# Altium footprint library 贴片电阻.PcbLib: 9 footprints
Each footprint in its own frame and in the unit in brackets; x right, y up, seen from the top. Pads: shape width x height; smd on the part's side, far side on the other; paste and mask are expansions set on the pad; w line width, h text height; cw(c..) or ccw(c..) is an arc to the next point about the centre after c.
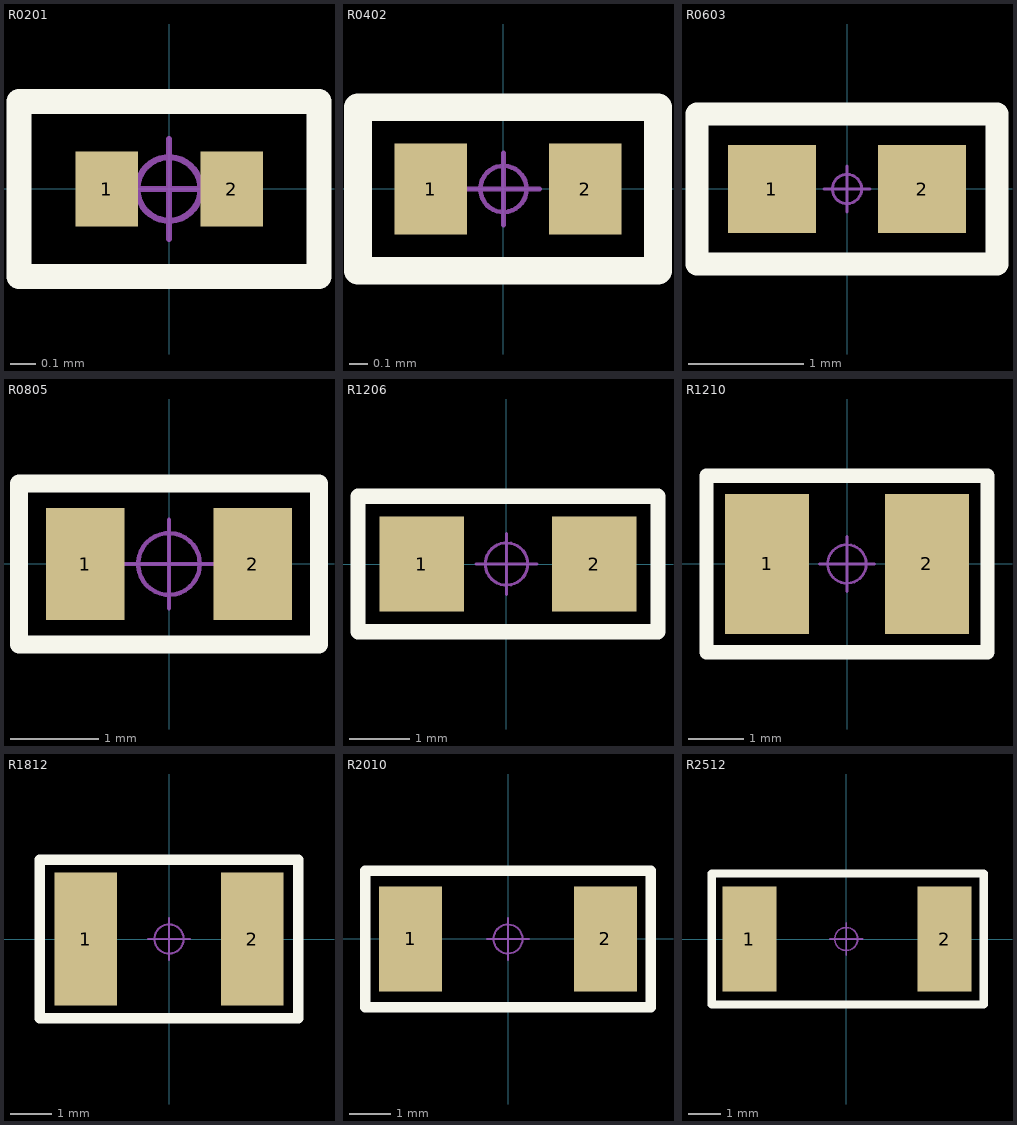
[diagram p0: the footprints below, top view; thin cyan lines are the x and y axes]

## R0201 [mm]
pads (2):
  rect 0.25x0.3 smd: 1(-0.25,0) 2(0.25,0)
Top Overlay:
  lines w0.102: -0.6,-0.35 -0.6,0.35 0.6,0.35 0.6,-0.35 -0.6,-0.35
Mechanical 15:
  circle w0.025: c0,0 r0.127
  lines w0.025: -0.2,0 0.2,0 ; 0,-0.2 0,0.2
3D body "R 0201.STEP": height 0.23, standoff 0, extent -0.3,-0.15 0.3,0.15

## R0402 [mm] "1/16W"
pads (2):
  rect 0.4x0.5 smd: 1(-0.4,0) 2(0.45,0)
Top Overlay:
  lines w0.152: -0.8,-0.45 0.85,-0.45 0.85,0.45 -0.8,0.45 -0.8,-0.45
Mechanical 15:
  circle w0.025: c0,0 r0.127
  lines w0.025: -0.2,0 0.2,0 ; 0,-0.2 0,0.2
3D body "R 0402.STEP": height 0.3, standoff 0, extent -0.5,-0.25 0.5,0.25

## R0603 [mil] "1/10W"
pads (2):
  rect 30x30 smd: 1(-25.59,0) 2(25.59,0)
Top Overlay:
  lines w8: -51.18,-25.59 51.18,-25.59 51.18,25.59 -51.18,25.59 -51.18,-25.59
Mechanical 15:
  circle w1: c0,0 r5
  lines w1: -7.87,0 7.87,0 ; 0,-7.87 0,7.87
3D body "R 0603.STEP": height 15.79, standoff -0.13, extent -31.49,-15.74 31.5,15.75

## R0805 [mil] "1/8W"
pads (2):
  rect 35x50 smd: 1(-37.4,0) 2(37.4,0)
Top Overlay:
  lines w8: -66.93,-36 66.93,-36 66.93,36 -66.93,36 -66.93,-36
Mechanical 15:
  circle w1.97: c0,0 r13.78
  lines w1.97: -19.68,0 19.68,0 ; 0,-19.68 0,19.68
3D body "R 0805.STEP": height 19.72, standoff -0.24, extent -39.37,-24.6 39.37,24.61

## R1206 [mil] "1/4W"
pads (2):
  rect 55x62 smd: 1(-55.12,0) 2(57.09,0)
Top Overlay:
  lines w10: -96.46,-44 -96.46,44 98.43,44 98.43,-44 -96.46,-44
Mechanical 15:
  circle w1.97: c0,0 r13.78
  lines w1.97: -19.68,0 19.68,0 ; 0,-19.68 0,19.68
3D body "R 1206.STEP": height 21.69, standoff -0.24, extent -62.99,-31.49 63,31.5

## R1210 [mm] "1/3W贴片电阻"
pads (2):
  rect 1.524x2.54 smd: 1(-1.45,0) 2(1.45,0)
Top Overlay:
  lines w0.254: -2.55,-1.6 -2.55,1.6 2.55,1.6 2.55,-1.6 -2.55,-1.6
Mechanical 15:
  circle w0.05: c0,0 r0.35
  lines w0.05: -0.5,0 0.5,0 ; 0,-0.5 0,0.5
3D body "R 1210.STEP": height 0.55, standoff -0.01, extent -1.6,-1.25 1.6,1.25

## R1812 [mm] "1/2W贴片电阻"
pads (2):
  rect 1.5x3.2 smd: 1(-2,0) 2(2,0)
Top Overlay:
  lines w0.254: -1.27,1.905 1.016,1.905 3.1,1.905 3.1,-1.905 1.016,-1.905 -1.016,-1.905 -3.1,-1.905 -3.1,1.905 -1.016,1.905
Mechanical 15:
  circle w0.05: c0,0 r0.35
  lines w0.05: -0.5,0 0.5,0 ; 0,-0.5 0,0.5
3D body "R 1812.STEP": height 0.55, standoff -0.01, extent -2.25,-1.6 2.25,1.6

## R2010 [mm] "3/4W贴片电阻"
pads (2):
  rect 1.52x2.54 smd: 1(-2.35,0) 2(2.35,0)
Top Overlay:
  lines w0.254: -3.45,-1.651 -3.45,1.651 1.27,1.651 3.45,1.651 3.45,-1.651 1.27,-1.651 -3.45,-1.651
Mechanical 15:
  circle w0.05: c0,0 r0.35
  lines w0.05: -0.5,0 0.5,0 ; 0,-0.5 0,0.5
3D body "R 2010.STEP": height 0.55, standoff -0.01, extent -2.5,-1.25 2.5,1.25

## R2512 [mm] "1W贴片电阻"
pads (2):
  rect 1.65x3.2 smd: 1(-2.95,0) 2(3,0)
Top Overlay:
  lines w0.254: -4.1,-2 -4.1,2 4.2,2 4.2,-2 -4.1,-2
Mechanical 15:
  circle w0.05: c0,0 r0.35
  lines w0.05: -0.5,0 0.5,0 ; 0,-0.5 0,0.5
3D body "R 2512.STEP": height 0.55, standoff -0.02, extent -3.2,-1.6 3.2,1.6